# Altium integrated library TI_Logic_Little_Logic.IntLib: 1164 symbols (part 5 of 35)
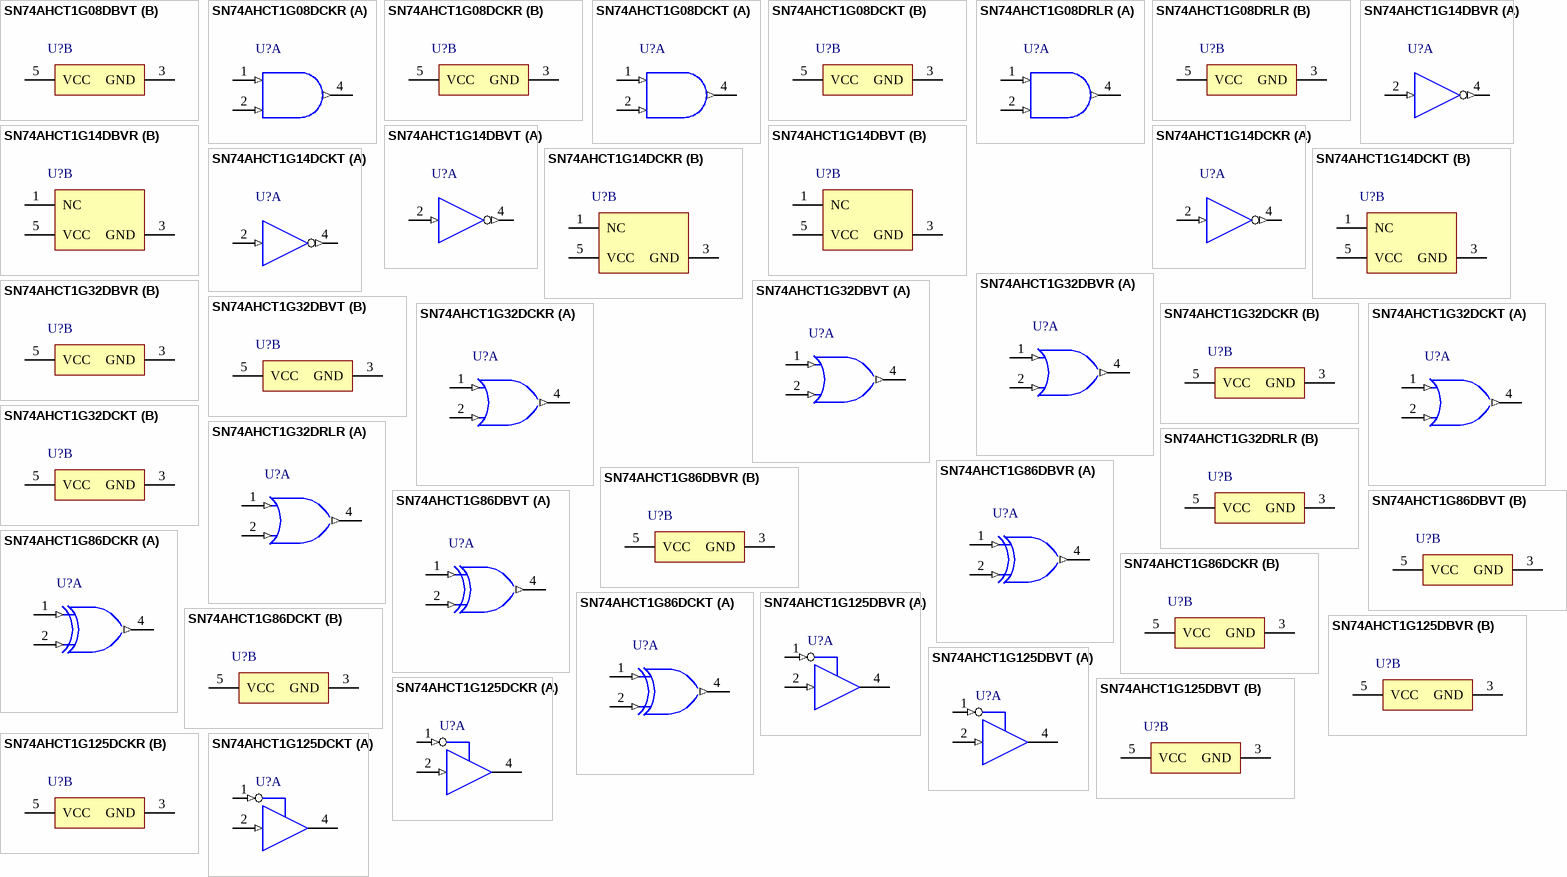
[diagram p64: symbols SN74AHCT1G08DBVT to SN74AHCT1G125DCKT]

## SN74AHCT1G32DCKR
designator U?
Single 2-Input Positive-OR Gate, DCK0005A, LARGE T&R; Generic Part Number: SN74AHCT1G32; Manufacturer: Texas Instruments; PartNumber: SN74AHCT1G32DCKR; VCC(Min)(V): 2; VCC(Max)(V): 5.5; Output Type: CMOS; ICC @ Nom Voltage(Max)(mA): 0.01; Bits(#): 1; F @ Nom Voltage(Max)(Mhz): 75; Rating: Catalog; Technology Family: AHCT; Voltage(Nom)(V): 5; Schmitt Trigger: No; Output Drive (IOL/IOH)(Max)(mA): 8/-8; tpd @ Nom Voltage(Max)(ns): 8; Logic: True; Gate Type: OR; Sub-Family: OR Gate; DatasheetVersion: SCLS320O; PackageReference: DCK0005A; Supplier 1: Mouser; Supplier Part Number 1: 595-SN74AHCT1G32DCKR; Supplier 2: Digi-Key; Supplier Part Number 2: 296-4713-2-ND; Supplier 3: Digi-Key; Supplier Part Number 3: 296-4713-1-ND; Supplier 4: Digi-Key; Supplier Part Number 4: 296-4713-6-ND; Input Type: CMOS; Operating Temperature Range(C): -40 to 125; 3-State Output: No; ComponentLink1Description: Manufacturer URL; ComponentLink1URL: http://www.ti.com/; ComponentLink2Description: Datasheet; ComponentLink2URL: http://www.ti.com/lit/ds/symlink/sn74ahct1g32.pdf
footprint DCK0005A_N (SOT23, 5-Leads, Body 2.15x1.4mm, Pitch 0.65mm, IPC Medium Density)
footprint DCK0005A_M (SOT23, 5-Leads, Body 2.15x1.4mm, Pitch 0.65mm, IPC Low Density)
footprint DCK0005A_L (SOT23, 5-Leads, Body 2.15x1.4mm, Pitch 0.65mm, IPC High Density)
part A pins: 1 A (in) "Input A", 2 B (in) "Input B", 4 Y (out) "Output Y"
part B pins: 3 GND (power) "Ground Pin", 5 VCC (power) "Power Pin"

## SN74AHCT1G32DCKT
designator U?
Single 2-Input Positive-OR Gate, DCK0005A, SMALL T&R; Generic Part Number: SN74AHCT1G32; Manufacturer: Texas Instruments; PartNumber: SN74AHCT1G32DCKT; VCC(Min)(V): 2; VCC(Max)(V): 5.5; Output Type: CMOS; ICC @ Nom Voltage(Max)(mA): 0.01; Bits(#): 1; F @ Nom Voltage(Max)(Mhz): 75; Rating: Catalog; Technology Family: AHCT; Voltage(Nom)(V): 5; Schmitt Trigger: No; Output Drive (IOL/IOH)(Max)(mA): 8/-8; tpd @ Nom Voltage(Max)(ns): 8; Logic: True; Gate Type: OR; Sub-Family: OR Gate; DatasheetVersion: SCLS320O; PackageReference: DCK0005A; Supplier 1: Mouser; Supplier Part Number 1: 595-SN74AHCT1G32DCKT; Supplier 2: Digi-Key; Supplier Part Number 2: 296-32250-2-ND; Supplier 3: Digi-Key; Supplier Part Number 3: 296-32250-1-ND; Supplier 4: Digi-Key; Supplier Part Number 4: 296-32250-6-ND; Input Type: CMOS; Operating Temperature Range(C): -40 to 125; 3-State Output: No; ComponentLink1Description: Manufacturer URL; ComponentLink1URL: http://www.ti.com/; ComponentLink2Description: Datasheet; ComponentLink2URL: http://www.ti.com/lit/ds/symlink/sn74ahct1g32.pdf
footprint DCK0005A_N (SOT23, 5-Leads, Body 2.15x1.4mm, Pitch 0.65mm, IPC Medium Density)
footprint DCK0005A_M (SOT23, 5-Leads, Body 2.15x1.4mm, Pitch 0.65mm, IPC Low Density)
footprint DCK0005A_L (SOT23, 5-Leads, Body 2.15x1.4mm, Pitch 0.65mm, IPC High Density)
part A pins: 1 A (in) "Input A", 2 B (in) "Input B", 4 Y (out) "Output Y"
part B pins: 3 GND (power) "Ground Pin", 5 VCC (power) "Power Pin"

## SN74AHCT1G32DRLR
designator U?
Single 2-Input Positive-OR Gate, DRL0005A, LARGE T&R; Generic Part Number: SN74AHCT1G32; Manufacturer: Texas Instruments; PartNumber: SN74AHCT1G32DRLR; VCC(Min)(V): 2; VCC(Max)(V): 5.5; Output Type: CMOS; ICC @ Nom Voltage(Max)(mA): 0.01; Bits(#): 1; F @ Nom Voltage(Max)(Mhz): 75; Rating: Catalog; Technology Family: AHCT; Voltage(Nom)(V): 5; Schmitt Trigger: No; Output Drive (IOL/IOH)(Max)(mA): 8/-8; tpd @ Nom Voltage(Max)(ns): 8; Logic: True; Gate Type: OR; Sub-Family: OR Gate; DatasheetVersion: SCLS320O; PackageReference: DRL0005A; Supplier 1: Mouser; Supplier Part Number 1: 595-SN74AHCT1G32DRLR; Supplier 2: Digi-Key; Supplier Part Number 2: 296-32251-2-ND; Supplier 3: Digi-Key; Supplier Part Number 3: 296-32251-1-ND; Supplier 4: Digi-Key; Supplier Part Number 4: 296-32251-6-ND; Input Type: CMOS; Operating Temperature Range(C): -40 to 125; 3-State Output: No; ComponentLink1Description: Manufacturer URL; ComponentLink1URL: http://www.ti.com/; ComponentLink2Description: Datasheet; ComponentLink2URL: http://www.ti.com/lit/ds/symlink/sn74ahct1g32.pdf
footprint DRL0005A_N (SOT23, 5-Leads, Body 1.7x1.3mm, Pitch 0.5mm, IPC Medium Density)
footprint DRL0005A_M (SOT23, 5-Leads, Body 1.7x1.3mm, Pitch 0.5mm, IPC Low Density)
footprint DRL0005A_L (SOT23, 5-Leads, Body 1.7x1.3mm, Pitch 0.5mm, IPC High Density)
part A pins: 1 A (in) "Input A", 2 B (in) "Input B", 4 Y (out) "Output Y"
part B pins: 3 GND (power) "Ground Pin", 5 VCC (power) "Power Pin"

## SN74AHCT1G86DBVR
designator U?
Single 2-Input Exclusive-OR Gate, DBV0005A, LARGE T&R; Generic Part Number: SN74AHCT1G86; Manufacturer: Texas Instruments; PartNumber: SN74AHCT1G86DBVR; VCC(Min)(V): 2; VCC(Max)(V): 5.5; Output Type: CMOS; ICC @ Nom Voltage(Max)(mA): 0.01; Bits(#): 1; F @ Nom Voltage(Max)(Mhz): 75; Rating: Catalog; Technology Family: AHCT; Voltage(Nom)(V): 5; Schmitt Trigger: No; Output Drive (IOL/IOH)(Max)(mA): 8/-8; tpd @ Nom Voltage(Max)(ns): 8; Logic: True; Gate Type: XOR; Sub-Family: XOR Gate; DatasheetVersion: SCLS324M; PackageReference: DBV0005A; Supplier 1: Mouser; Supplier Part Number 1: 595-SN74AHCT1G86DBVR; Supplier 2: Digi-Key; Supplier Part Number 2: 296-4714-2-ND; Supplier 3: Digi-Key; Supplier Part Number 3: 296-4714-1-ND; Supplier 4: Digi-Key; Supplier Part Number 4: 296-4714-6-ND; Input Type: CMOS; Operating Temperature Range(C): -40 to 125; 3-State Output: No; ComponentLink1Description: Manufacturer URL; ComponentLink1URL: http://www.ti.com/; ComponentLink2Description: Datasheet; ComponentLink2URL: http://www.ti.com/lit/ds/symlink/sn74ahct1g86.pdf
footprint DBV0005A_N (SOT23, 5-Leads, Body 3.05x1.75mm, Pitch 0.95mm, IPC Medium Density)
footprint DBV0005A_M (SOT23, 5-Leads, Body 3.05x1.75mm, Pitch 0.95mm, IPC Low Density)
footprint DBV0005A_L (SOT23, 5-Leads, Body 3.05x1.75mm, Pitch 0.95mm, IPC High Density)
part A pins: 1 A (in) "Input A", 2 B (in) "Input B", 4 Y (out) "Output Y"
part B pins: 3 GND (power) "Ground Pin", 5 VCC (power) "Power Pin"

## SN74AHCT1G86DBVT
designator U?
Single 2-Input Exclusive-OR Gate, DBV0005A, SMALL T&R; Generic Part Number: SN74AHCT1G86; Manufacturer: Texas Instruments; PartNumber: SN74AHCT1G86DBVT; VCC(Min)(V): 2; VCC(Max)(V): 5.5; Output Type: CMOS; ICC @ Nom Voltage(Max)(mA): 0.01; Bits(#): 1; F @ Nom Voltage(Max)(Mhz): 75; Rating: Catalog; Technology Family: AHCT; Voltage(Nom)(V): 5; Schmitt Trigger: No; Output Drive (IOL/IOH)(Max)(mA): 8/-8; tpd @ Nom Voltage(Max)(ns): 8; Logic: True; Gate Type: XOR; Sub-Family: XOR Gate; DatasheetVersion: SCLS324M; PackageReference: DBV0005A; Supplier 1: Mouser; Supplier Part Number 1: 595-SN74AHCT1G86DBVT; Supplier 2: Digi-Key; Supplier Part Number 2: 296-32252-2-ND; Supplier 3: Digi-Key; Supplier Part Number 3: 296-32252-1-ND; Supplier 4: Digi-Key; Supplier Part Number 4: 296-32252-6-ND; Input Type: CMOS; Operating Temperature Range(C): -40 to 125; 3-State Output: No; ComponentLink1Description: Manufacturer URL; ComponentLink1URL: http://www.ti.com/; ComponentLink2Description: Datasheet; ComponentLink2URL: http://www.ti.com/lit/ds/symlink/sn74ahct1g86.pdf
footprint DBV0005A_N (SOT23, 5-Leads, Body 3.05x1.75mm, Pitch 0.95mm, IPC Medium Density)
footprint DBV0005A_M (SOT23, 5-Leads, Body 3.05x1.75mm, Pitch 0.95mm, IPC Low Density)
footprint DBV0005A_L (SOT23, 5-Leads, Body 3.05x1.75mm, Pitch 0.95mm, IPC High Density)
part A pins: 1 A (in) "Input A", 2 B (in) "Input B", 4 Y (out) "Output Y"
part B pins: 3 GND (power) "Ground Pin", 5 VCC (power) "Power Pin"

## SN74AHCT1G86DCKR
designator U?
Single 2-Input Exclusive-OR Gate, DCK0005A, LARGE T&R; Generic Part Number: SN74AHCT1G86; Manufacturer: Texas Instruments; PartNumber: SN74AHCT1G86DCKR; VCC(Min)(V): 2; VCC(Max)(V): 5.5; Output Type: CMOS; ICC @ Nom Voltage(Max)(mA): 0.01; Bits(#): 1; F @ Nom Voltage(Max)(Mhz): 75; Rating: Catalog; Technology Family: AHCT; Voltage(Nom)(V): 5; Schmitt Trigger: No; Output Drive (IOL/IOH)(Max)(mA): 8/-8; tpd @ Nom Voltage(Max)(ns): 8; Logic: True; Gate Type: XOR; Sub-Family: XOR Gate; DatasheetVersion: SCLS324M; PackageReference: DCK0005A; Supplier 1: Mouser; Supplier Part Number 1: 595-SN74AHCT1G86DCKR; Supplier 2: Digi-Key; Supplier Part Number 2: 296-4715-2-ND; Supplier 3: Digi-Key; Supplier Part Number 3: 296-4715-1-ND; Supplier 4: Digi-Key; Supplier Part Number 4: 296-4715-6-ND; Input Type: CMOS; Operating Temperature Range(C): -40 to 125; 3-State Output: No; ComponentLink1Description: Manufacturer URL; ComponentLink1URL: http://www.ti.com/; ComponentLink2Description: Datasheet; ComponentLink2URL: http://www.ti.com/lit/ds/symlink/sn74ahct1g86.pdf
footprint DCK0005A_N (SOT23, 5-Leads, Body 2.15x1.4mm, Pitch 0.65mm, IPC Medium Density)
footprint DCK0005A_M (SOT23, 5-Leads, Body 2.15x1.4mm, Pitch 0.65mm, IPC Low Density)
footprint DCK0005A_L (SOT23, 5-Leads, Body 2.15x1.4mm, Pitch 0.65mm, IPC High Density)
part A pins: 1 A (in) "Input A", 2 B (in) "Input B", 4 Y (out) "Output Y"
part B pins: 3 GND (power) "Ground Pin", 5 VCC (power) "Power Pin"

## SN74AHCT1G86DCKT
designator U?
Single 2-Input Exclusive-OR Gate, DCK0005A, SMALL T&R; Generic Part Number: SN74AHCT1G86; Manufacturer: Texas Instruments; PartNumber: SN74AHCT1G86DCKT; VCC(Min)(V): 2; VCC(Max)(V): 5.5; Output Type: CMOS; ICC @ Nom Voltage(Max)(mA): 0.01; Bits(#): 1; F @ Nom Voltage(Max)(Mhz): 75; Rating: Catalog; Technology Family: AHCT; Voltage(Nom)(V): 5; Schmitt Trigger: No; Output Drive (IOL/IOH)(Max)(mA): 8/-8; tpd @ Nom Voltage(Max)(ns): 8; Logic: True; Gate Type: XOR; Sub-Family: XOR Gate; DatasheetVersion: SCLS324M; PackageReference: DCK0005A; Supplier 1: Mouser; Supplier Part Number 1: 595-SN74AHCT1G86DCKT; Input Type: CMOS; Operating Temperature Range(C): -40 to 125; 3-State Output: No; ComponentLink1Description: Manufacturer URL; ComponentLink1URL: http://www.ti.com/; ComponentLink2Description: Datasheet; ComponentLink2URL: http://www.ti.com/lit/ds/symlink/sn74ahct1g86.pdf
footprint DCK0005A_N (SOT23, 5-Leads, Body 2.15x1.4mm, Pitch 0.65mm, IPC Medium Density)
footprint DCK0005A_M (SOT23, 5-Leads, Body 2.15x1.4mm, Pitch 0.65mm, IPC Low Density)
footprint DCK0005A_L (SOT23, 5-Leads, Body 2.15x1.4mm, Pitch 0.65mm, IPC High Density)
part A pins: 1 A (in) "Input A", 2 B (in) "Input B", 4 Y (out) "Output Y"
part B pins: 3 GND (power) "Ground Pin", 5 VCC (power) "Power Pin"

## SN74AHCT1G125DBVR
designator U?
Single Bus Buffer Gate With 3-State Output, DBV0005A, LARGE T&R; Generic Part Number: SN74AHCT1G125; Manufacturer: Texas Instruments; PartNumber: SN74AHCT1G125DBVR; VCC(Min)(V): 2; VCC(Max)(V): 5.5; Output Type: CMOS; ICC @ Nom Voltage(Max)(mA): 0.01; Bits(#): 1; F @ Nom Voltage(Max)(Mhz): 75; Rating: Catalog; Technology Family: AHCT; Voltage(Nom)(V): 5; Schmitt Trigger: No; Output Drive (IOL/IOH)(Max)(mA): 8/-8; tpd @ Nom Voltage(Max)(ns): 6; Logic: True; Sub-Family: Non-Inverting Buffer/Driver; 3-State Output: Yes; DatasheetVersion: SCLS378M; PackageReference: DBV0005A; Supplier 1: Mouser; Supplier Part Number 1: 595-SNAHCT1G125DBVR; Supplier 2: Digi-Key; Supplier Part Number 2: 296-4708-2-ND; Supplier 3: Digi-Key; Supplier Part Number 3: 296-4708-1-ND; Supplier 4: Digi-Key; Supplier Part Number 4: 296-4708-6-ND; Input Type: CMOS; Operating Temperature Range(C): -40 to 125; ComponentLink1Description: Manufacturer URL; ComponentLink1URL: http://www.ti.com/; ComponentLink2Description: Datasheet; ComponentLink2URL: http://www.ti.com/lit/ds/symlink/sn74ahct1g125.pdf
footprint DBV0005A_N (SOT23, 5-Leads, Body 3.05x1.75mm, Pitch 0.95mm, IPC Medium Density)
footprint DBV0005A_M (SOT23, 5-Leads, Body 3.05x1.75mm, Pitch 0.95mm, IPC Low Density)
footprint DBV0005A_L (SOT23, 5-Leads, Body 3.05x1.75mm, Pitch 0.95mm, IPC High Density)
part A pins: 1 ~{OE} (in), 2 A (in), 4 Y (hiz)
part B pins: 3 GND (power), 5 VCC (power)

## SN74AHCT1G125DBVT
designator U?
Single Bus Buffer Gate With 3-State Output, DBV0005A, SMALL T&R; Generic Part Number: SN74AHCT1G125; Manufacturer: Texas Instruments; PartNumber: SN74AHCT1G125DBVT; VCC(Min)(V): 2; VCC(Max)(V): 5.5; Output Type: CMOS; ICC @ Nom Voltage(Max)(mA): 0.01; Bits(#): 1; F @ Nom Voltage(Max)(Mhz): 75; Rating: Catalog; Technology Family: AHCT; Voltage(Nom)(V): 5; Schmitt Trigger: No; Output Drive (IOL/IOH)(Max)(mA): 8/-8; tpd @ Nom Voltage(Max)(ns): 6; Logic: True; Sub-Family: Non-Inverting Buffer/Driver; 3-State Output: Yes; DatasheetVersion: SCLS378M; PackageReference: DBV0005A; Supplier 1: Mouser; Supplier Part Number 1: 595-SN74AHCT1G125DBV; Supplier 2: Digi-Key; Supplier Part Number 2: 296-32243-2-ND; Supplier 3: Digi-Key; Supplier Part Number 3: 296-32243-1-ND; Supplier 4: Digi-Key; Supplier Part Number 4: 296-32243-6-ND; Input Type: CMOS; Operating Temperature Range(C): -40 to 125; ComponentLink1Description: Manufacturer URL; ComponentLink1URL: http://www.ti.com/; ComponentLink2Description: Datasheet; ComponentLink2URL: http://www.ti.com/lit/ds/symlink/sn74ahct1g125.pdf
footprint DBV0005A_N (SOT23, 5-Leads, Body 3.05x1.75mm, Pitch 0.95mm, IPC Medium Density)
footprint DBV0005A_M (SOT23, 5-Leads, Body 3.05x1.75mm, Pitch 0.95mm, IPC Low Density)
footprint DBV0005A_L (SOT23, 5-Leads, Body 3.05x1.75mm, Pitch 0.95mm, IPC High Density)
part A pins: 1 ~{OE} (in), 2 A (in), 4 Y (hiz)
part B pins: 3 GND (power), 5 VCC (power)

## SN74AHCT1G125DCKR
designator U?
Single Bus Buffer Gate With 3-State Output, DCK0005A, LARGE T&R; Generic Part Number: SN74AHCT1G125; Manufacturer: Texas Instruments; PartNumber: SN74AHCT1G125DCKR; VCC(Min)(V): 2; VCC(Max)(V): 5.5; Output Type: CMOS; ICC @ Nom Voltage(Max)(mA): 0.01; Bits(#): 1; F @ Nom Voltage(Max)(Mhz): 75; Rating: Catalog; Technology Family: AHCT; Voltage(Nom)(V): 5; Schmitt Trigger: No; Output Drive (IOL/IOH)(Max)(mA): 8/-8; tpd @ Nom Voltage(Max)(ns): 6; Logic: True; Sub-Family: Non-Inverting Buffer/Driver; 3-State Output: Yes; DatasheetVersion: SCLS378M; PackageReference: DCK0005A; Supplier 1: Mouser; Supplier Part Number 1: 595-SNAHCT1G125DCKR; Supplier 2: Digi-Key; Supplier Part Number 2: 296-4709-2-ND; Supplier 3: Digi-Key; Supplier Part Number 3: 296-4709-1-ND; Supplier 4: Digi-Key; Supplier Part Number 4: 296-4709-6-ND; Input Type: CMOS; Operating Temperature Range(C): -40 to 125; ComponentLink1Description: Manufacturer URL; ComponentLink1URL: http://www.ti.com/; ComponentLink2Description: Datasheet; ComponentLink2URL: http://www.ti.com/lit/ds/symlink/sn74ahct1g125.pdf
footprint DCK0005A_N (SOT23, 5-Leads, Body 2.15x1.4mm, Pitch 0.65mm, IPC Medium Density)
footprint DCK0005A_M (SOT23, 5-Leads, Body 2.15x1.4mm, Pitch 0.65mm, IPC Low Density)
footprint DCK0005A_L (SOT23, 5-Leads, Body 2.15x1.4mm, Pitch 0.65mm, IPC High Density)
part A pins: 1 ~{OE} (in), 2 A (in), 4 Y (hiz)
part B pins: 3 GND (power), 5 VCC (power)

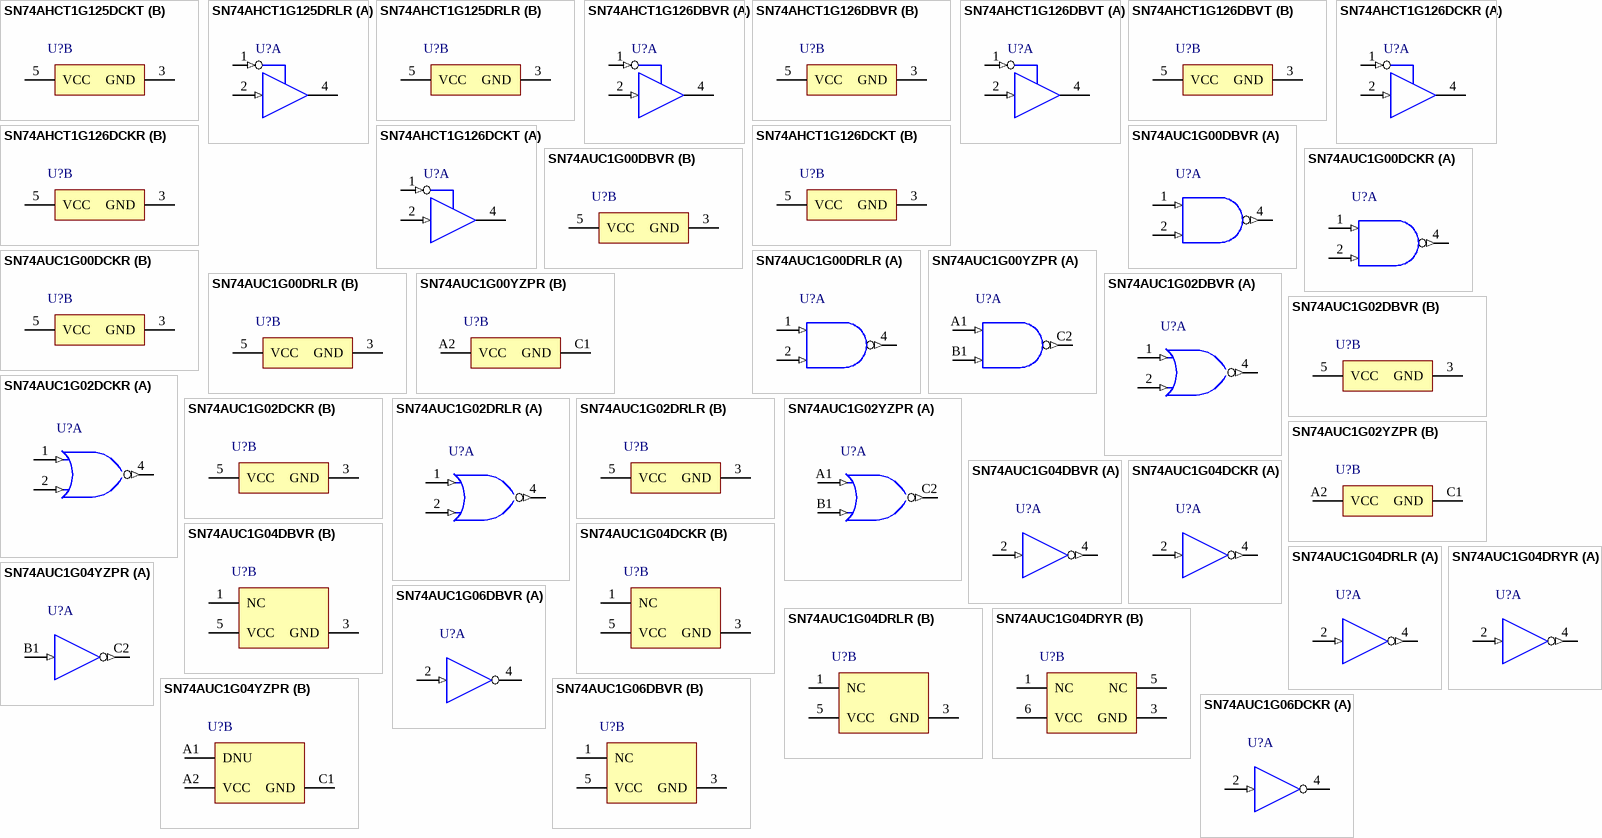
[diagram p7: symbols SN74AHCT1G125DCKT to SN74AUC1G06DCKR]

## SN74AHCT1G125DCKT
designator U?
Single Bus Buffer Gate With 3-State Output, DCK0005A, SMALL T&R; Generic Part Number: SN74AHCT1G125; Manufacturer: Texas Instruments; PartNumber: SN74AHCT1G125DCKT; VCC(Min)(V): 2; VCC(Max)(V): 5.5; Output Type: CMOS; ICC @ Nom Voltage(Max)(mA): 0.01; Bits(#): 1; F @ Nom Voltage(Max)(Mhz): 75; Rating: Catalog; Technology Family: AHCT; Voltage(Nom)(V): 5; Schmitt Trigger: No; Output Drive (IOL/IOH)(Max)(mA): 8/-8; tpd @ Nom Voltage(Max)(ns): 6; Logic: True; Sub-Family: Non-Inverting Buffer/Driver; 3-State Output: Yes; DatasheetVersion: SCLS378M; PackageReference: DCK0005A; Supplier 1: Mouser; Supplier Part Number 1: 595-SN74AHCT1G125DCK; Supplier 2: Digi-Key; Supplier Part Number 2: 296-32244-2-ND; Supplier 3: Digi-Key; Supplier Part Number 3: 296-32244-1-ND; Supplier 4: Digi-Key; Supplier Part Number 4: 296-32244-6-ND; Input Type: CMOS; Operating Temperature Range(C): -40 to 125; ComponentLink1Description: Manufacturer URL; ComponentLink1URL: http://www.ti.com/; ComponentLink2Description: Datasheet; ComponentLink2URL: http://www.ti.com/lit/ds/symlink/sn74ahct1g125.pdf
footprint DCK0005A_N (SOT23, 5-Leads, Body 2.15x1.4mm, Pitch 0.65mm, IPC Medium Density)
footprint DCK0005A_M (SOT23, 5-Leads, Body 2.15x1.4mm, Pitch 0.65mm, IPC Low Density)
footprint DCK0005A_L (SOT23, 5-Leads, Body 2.15x1.4mm, Pitch 0.65mm, IPC High Density)
part A pins: 1 ~{OE} (in), 2 A (in), 4 Y (hiz)
part B pins: 3 GND (power), 5 VCC (power)

## SN74AHCT1G125DRLR
designator U?
Single Bus Buffer Gate With 3-State Output, DRL0005A, LARGE T&R; Generic Part Number: SN74AHCT1G125; Manufacturer: Texas Instruments; PartNumber: SN74AHCT1G125DRLR; VCC(Min)(V): 2; VCC(Max)(V): 5.5; Output Type: CMOS; ICC @ Nom Voltage(Max)(mA): 0.01; Bits(#): 1; F @ Nom Voltage(Max)(Mhz): 75; Rating: Catalog; Technology Family: AHCT; Voltage(Nom)(V): 5; Schmitt Trigger: No; Output Drive (IOL/IOH)(Max)(mA): 8/-8; tpd @ Nom Voltage(Max)(ns): 6; Logic: True; Sub-Family: Non-Inverting Buffer/Driver; 3-State Output: Yes; DatasheetVersion: SCLS378M; PackageReference: DRL0005A; Supplier 1: Mouser; Supplier Part Number 1: 595-SN74AHCT1G125DRL; Supplier 2: Digi-Key; Supplier Part Number 2: 296-19379-2-ND; Supplier 3: Digi-Key; Supplier Part Number 3: 296-19379-1-ND; Supplier 4: Digi-Key; Supplier Part Number 4: 296-19379-6-ND; Input Type: CMOS; Operating Temperature Range(C): -40 to 125; ComponentLink1Description: Manufacturer URL; ComponentLink1URL: http://www.ti.com/; ComponentLink2Description: Datasheet; ComponentLink2URL: http://www.ti.com/lit/ds/symlink/sn74ahct1g125.pdf
footprint DRL0005A_N (SOT23, 5-Leads, Body 1.7x1.3mm, Pitch 0.5mm, IPC Medium Density)
footprint DRL0005A_M (SOT23, 5-Leads, Body 1.7x1.3mm, Pitch 0.5mm, IPC Low Density)
footprint DRL0005A_L (SOT23, 5-Leads, Body 1.7x1.3mm, Pitch 0.5mm, IPC High Density)
part A pins: 1 ~{OE} (in), 2 A (in), 4 Y (hiz)
part B pins: 3 GND (power), 5 VCC (power)

## SN74AHCT1G126DBVR
designator U?
Single Bus Buffer Gate With 3-State Output, DBV0005A, LARGE T&R; Generic Part Number: SN74AHCT1G126; Manufacturer: Texas Instruments; PartNumber: SN74AHCT1G126DBVR; VCC(Min)(V): 2; VCC(Max)(V): 5.5; Output Type: CMOS; ICC @ Nom Voltage(Max)(mA): 0.01; Bits(#): 1; F @ Nom Voltage(Max)(Mhz): 75; Rating: Catalog; Technology Family: AHCT; Voltage(Nom)(V): 5; Schmitt Trigger: No; Output Drive (IOL/IOH)(Max)(mA): 8/-8; tpd @ Nom Voltage(Max)(ns): 6; Logic: True; Sub-Family: Non-Inverting Buffer/Driver; 3-State Output: Yes; DatasheetVersion: SCLS380J; PackageReference: DBV0005A; Supplier 1: Mouser; Supplier Part Number 1: 595-SNAHCT1G126DBVR; Supplier 2: Digi-Key; Supplier Part Number 2: 296-4710-2-ND; Supplier 3: Digi-Key; Supplier Part Number 3: 296-4710-1-ND; Supplier 4: Digi-Key; Supplier Part Number 4: 296-4710-6-ND; Input Type: CMOS; Operating Temperature Range(C): -40 to 125; ComponentLink1Description: Manufacturer URL; ComponentLink1URL: http://www.ti.com/; ComponentLink2Description: Datasheet; ComponentLink2URL: http://www.ti.com/lit/ds/symlink/sn74ahct1g126.pdf
footprint DBV0005A_N (SOT23, 5-Leads, Body 3.05x1.75mm, Pitch 0.95mm, IPC Medium Density)
footprint DBV0005A_M (SOT23, 5-Leads, Body 3.05x1.75mm, Pitch 0.95mm, IPC Low Density)
footprint DBV0005A_L (SOT23, 5-Leads, Body 3.05x1.75mm, Pitch 0.95mm, IPC High Density)
part A pins: 1 OE (in), 2 A (in), 4 Y (hiz)
part B pins: 3 GND (power), 5 VCC (power)

## SN74AHCT1G126DBVT
designator U?
Single Bus Buffer Gate With 3-State Output, DBV0005A, SMALL T&R; Generic Part Number: SN74AHCT1G126; Manufacturer: Texas Instruments; PartNumber: SN74AHCT1G126DBVT; VCC(Min)(V): 2; VCC(Max)(V): 5.5; Output Type: CMOS; ICC @ Nom Voltage(Max)(mA): 0.01; Bits(#): 1; F @ Nom Voltage(Max)(Mhz): 75; Rating: Catalog; Technology Family: AHCT; Voltage(Nom)(V): 5; Schmitt Trigger: No; Output Drive (IOL/IOH)(Max)(mA): 8/-8; tpd @ Nom Voltage(Max)(ns): 6; Logic: True; Sub-Family: Non-Inverting Buffer/Driver; 3-State Output: Yes; DatasheetVersion: SCLS380J; PackageReference: DBV0005A; Supplier 1: Mouser; Supplier Part Number 1: 595-SN74AHCT1G126DBV; Supplier 2: Digi-Key; Supplier Part Number 2: 296-32245-2-ND; Supplier 3: Digi-Key; Supplier Part Number 3: 296-32245-1-ND; Supplier 4: Digi-Key; Supplier Part Number 4: 296-32245-6-ND; Input Type: CMOS; Operating Temperature Range(C): -40 to 125; ComponentLink1Description: Manufacturer URL; ComponentLink1URL: http://www.ti.com/; ComponentLink2Description: Datasheet; ComponentLink2URL: http://www.ti.com/lit/ds/symlink/sn74ahct1g126.pdf
footprint DBV0005A_N (SOT23, 5-Leads, Body 3.05x1.75mm, Pitch 0.95mm, IPC Medium Density)
footprint DBV0005A_M (SOT23, 5-Leads, Body 3.05x1.75mm, Pitch 0.95mm, IPC Low Density)
footprint DBV0005A_L (SOT23, 5-Leads, Body 3.05x1.75mm, Pitch 0.95mm, IPC High Density)
part A pins: 1 OE (in), 2 A (in), 4 Y (hiz)
part B pins: 3 GND (power), 5 VCC (power)

## SN74AHCT1G126DCKR
designator U?
Single Bus Buffer Gate With 3-State Output, DCK0005A, LARGE T&R; Generic Part Number: SN74AHCT1G126; Manufacturer: Texas Instruments; PartNumber: SN74AHCT1G126DCKR; VCC(Min)(V): 2; VCC(Max)(V): 5.5; Output Type: CMOS; ICC @ Nom Voltage(Max)(mA): 0.01; Bits(#): 1; F @ Nom Voltage(Max)(Mhz): 75; Rating: Catalog; Technology Family: AHCT; Voltage(Nom)(V): 5; Schmitt Trigger: No; Output Drive (IOL/IOH)(Max)(mA): 8/-8; tpd @ Nom Voltage(Max)(ns): 6; Logic: True; Sub-Family: Non-Inverting Buffer/Driver; 3-State Output: Yes; DatasheetVersion: SCLS380J; PackageReference: DCK0005A; Supplier 1: Mouser; Supplier Part Number 1: 595-SNAHCT1G126DCKR; Supplier 2: Digi-Key; Supplier Part Number 2: 296-4711-2-ND; Supplier 3: Digi-Key; Supplier Part Number 3: 296-4711-1-ND; Supplier 4: Digi-Key; Supplier Part Number 4: 296-4711-6-ND; Input Type: CMOS; Operating Temperature Range(C): -40 to 125; ComponentLink1Description: Manufacturer URL; ComponentLink1URL: http://www.ti.com/; ComponentLink2Description: Datasheet; ComponentLink2URL: http://www.ti.com/lit/ds/symlink/sn74ahct1g126.pdf
footprint DCK0005A_N (SOT23, 5-Leads, Body 2.15x1.4mm, Pitch 0.65mm, IPC Medium Density)
footprint DCK0005A_M (SOT23, 5-Leads, Body 2.15x1.4mm, Pitch 0.65mm, IPC Low Density)
footprint DCK0005A_L (SOT23, 5-Leads, Body 2.15x1.4mm, Pitch 0.65mm, IPC High Density)
part A pins: 1 OE (in), 2 A (in), 4 Y (hiz)
part B pins: 3 GND (power), 5 VCC (power)

## SN74AHCT1G126DCKT
designator U?
Single Bus Buffer Gate With 3-State Output, DCK0005A, SMALL T&R; Generic Part Number: SN74AHCT1G126; Manufacturer: Texas Instruments; PartNumber: SN74AHCT1G126DCKT; VCC(Min)(V): 2; VCC(Max)(V): 5.5; Output Type: CMOS; ICC @ Nom Voltage(Max)(mA): 0.01; Bits(#): 1; F @ Nom Voltage(Max)(Mhz): 75; Rating: Catalog; Technology Family: AHCT; Voltage(Nom)(V): 5; Schmitt Trigger: No; Output Drive (IOL/IOH)(Max)(mA): 8/-8; tpd @ Nom Voltage(Max)(ns): 6; Logic: True; Sub-Family: Non-Inverting Buffer/Driver; 3-State Output: Yes; DatasheetVersion: SCLS380J; PackageReference: DCK0005A; Supplier 1: Mouser; Supplier Part Number 1: 595-SN74AHCT1G126DCK; Supplier 2: Digi-Key; Supplier Part Number 2: 296-32246-2-ND; Supplier 3: Digi-Key; Supplier Part Number 3: 296-32246-1-ND; Supplier 4: Digi-Key; Supplier Part Number 4: 296-32246-6-ND; Input Type: CMOS; Operating Temperature Range(C): -40 to 125; ComponentLink1Description: Manufacturer URL; ComponentLink1URL: http://www.ti.com/; ComponentLink2Description: Datasheet; ComponentLink2URL: http://www.ti.com/lit/ds/symlink/sn74ahct1g126.pdf
footprint DCK0005A_N (SOT23, 5-Leads, Body 2.15x1.4mm, Pitch 0.65mm, IPC Medium Density)
footprint DCK0005A_M (SOT23, 5-Leads, Body 2.15x1.4mm, Pitch 0.65mm, IPC Low Density)
footprint DCK0005A_L (SOT23, 5-Leads, Body 2.15x1.4mm, Pitch 0.65mm, IPC High Density)
part A pins: 1 OE (in), 2 A (in), 4 Y (hiz)
part B pins: 3 GND (power), 5 VCC (power)

## SN74AUC1G00DBVR
designator U?
Single 2-Input Positive-NAND Gate, DBV0005A, LARGE T&R; Generic Part Number: SN74AUC1G00; Manufacturer: Texas Instruments; PartNumber: SN74AUC1G00DBVR; VCC(Min)(V): 0.8; VCC(Max)(V): 2.7; Output Type: CMOS; ICC @ Nom Voltage(Max)(mA): 0.01; Bits(#): 1; F @ Nom Voltage(Max)(Mhz): 250; Rating: Catalog; Technology Family: AUC; Voltage(Nom)(V): 0.8,1.2,1.5,1.8,2.5; Schmitt Trigger: No; Output Drive (IOL/IOH)(Max)(mA): 9/-9; tpd @ Nom Voltage(Max)(ns): 4.7,3.2,2.2,1.6,1.4; Logic: True; Gate Type: NAND; DatasheetVersion: SCES368O; PackageReference: DBV0005A; Supplier 1: Mouser; Supplier Part Number 1: 595-SN74AUC1G00DBVR; Supplier 2: Digi-Key; Supplier Part Number 2: 296-13164-2-ND; Supplier 3: Digi-Key; Supplier Part Number 3: 296-13164-1-ND; Supplier 4: Digi-Key; Supplier Part Number 4: 296-13164-6-ND; Input Type: CMOS; Operating Temperature Range(C): -40 to 85; Sub-Family: NAND Gate; 3-State Output: No; ComponentLink1Description: Manufacturer URL; ComponentLink1URL: http://www.ti.com/; ComponentLink2Description: Datasheet; ComponentLink2URL: http://www.ti.com/lit/ds/symlink/sn74auc1g00.pdf
footprint DBV0005A_N (SOT23, 5-Leads, Body 3.05x1.75mm, Pitch 0.95mm, IPC Medium Density)
footprint DBV0005A_M (SOT23, 5-Leads, Body 3.05x1.75mm, Pitch 0.95mm, IPC Low Density)
footprint DBV0005A_L (SOT23, 5-Leads, Body 3.05x1.75mm, Pitch 0.95mm, IPC High Density)
part A pins: 1 A (in) "Input A", 2 B (in) "Input B", 4 Y (out) "Output Y"
part B pins: 3 GND (power) "Ground Pin", 5 VCC (power) "Power Pin"

## SN74AUC1G00DCKR
designator U?
Single 2-Input Positive-NAND Gate, DCK0005A, LARGE T&R; Generic Part Number: SN74AUC1G00; Manufacturer: Texas Instruments; PartNumber: SN74AUC1G00DCKR; VCC(Min)(V): 0.8; VCC(Max)(V): 2.7; Output Type: CMOS; ICC @ Nom Voltage(Max)(mA): 0.01; Bits(#): 1; F @ Nom Voltage(Max)(Mhz): 250; Rating: Catalog; Technology Family: AUC; Voltage(Nom)(V): 0.8,1.2,1.5,1.8,2.5; Schmitt Trigger: No; Output Drive (IOL/IOH)(Max)(mA): 9/-9; tpd @ Nom Voltage(Max)(ns): 4.7,3.2,2.2,1.6,1.4; Logic: True; Gate Type: NAND; DatasheetVersion: SCES368O; PackageReference: DCK0005A; Supplier 1: Mouser; Supplier Part Number 1: 595-SN74AUC1G00DCKR; Supplier 2: Digi-Key; Supplier Part Number 2: 296-13165-2-ND; Supplier 3: Digi-Key; Supplier Part Number 3: 296-13165-1-ND; Supplier 4: Digi-Key; Supplier Part Number 4: 296-13165-6-ND; Input Type: CMOS; Operating Temperature Range(C): -40 to 85; Sub-Family: NAND Gate; 3-State Output: No; ComponentLink1Description: Manufacturer URL; ComponentLink1URL: http://www.ti.com/; ComponentLink2Description: Datasheet; ComponentLink2URL: http://www.ti.com/lit/ds/symlink/sn74auc1g00.pdf
footprint DCK0005A_N (SOT23, 5-Leads, Body 2.15x1.4mm, Pitch 0.65mm, IPC Medium Density)
footprint DCK0005A_M (SOT23, 5-Leads, Body 2.15x1.4mm, Pitch 0.65mm, IPC Low Density)
footprint DCK0005A_L (SOT23, 5-Leads, Body 2.15x1.4mm, Pitch 0.65mm, IPC High Density)
part A pins: 1 A (in) "Input A", 2 B (in) "Input B", 4 Y (out) "Output Y"
part B pins: 3 GND (power) "Ground Pin", 5 VCC (power) "Power Pin"

## SN74AUC1G00DRLR
designator U?
Single 2-Input Positive-NAND Gate, DRL0005A, LARGE T&R; Generic Part Number: SN74AUC1G00; Manufacturer: Texas Instruments; PartNumber: SN74AUC1G00DRLR; VCC(Min)(V): 0.8; VCC(Max)(V): 2.7; Output Type: CMOS; ICC @ Nom Voltage(Max)(mA): 0.01; Bits(#): 1; F @ Nom Voltage(Max)(Mhz): 250; Rating: Catalog; Technology Family: AUC; Voltage(Nom)(V): 0.8,1.2,1.5,1.8,2.5; Schmitt Trigger: No; Output Drive (IOL/IOH)(Max)(mA): 9/-9; tpd @ Nom Voltage(Max)(ns): 4.7,3.2,2.2,1.6,1.4; Logic: True; Gate Type: NAND; DatasheetVersion: SCES368O; PackageReference: DRL0005A; Supplier 1: Mouser; Supplier Part Number 1: 595-SN74AUC1G00DRLR; Supplier 2: Digi-Key; Supplier Part Number 2: 296-19319-2-ND; Supplier 3: Digi-Key; Supplier Part Number 3: 296-19319-1-ND; Supplier 4: Digi-Key; Supplier Part Number 4: 296-19319-6-ND; Input Type: CMOS; Operating Temperature Range(C): -40 to 85; Sub-Family: NAND Gate; 3-State Output: No; ComponentLink1Description: Manufacturer URL; ComponentLink1URL: http://www.ti.com/; ComponentLink2Description: Datasheet; ComponentLink2URL: http://www.ti.com/lit/ds/symlink/sn74auc1g00.pdf
footprint DRL0005A_N (SOT23, 5-Leads, Body 1.7x1.3mm, Pitch 0.5mm, IPC Medium Density)
footprint DRL0005A_M (SOT23, 5-Leads, Body 1.7x1.3mm, Pitch 0.5mm, IPC Low Density)
footprint DRL0005A_L (SOT23, 5-Leads, Body 1.7x1.3mm, Pitch 0.5mm, IPC High Density)
part A pins: 1 A (in) "Input A", 2 B (in) "Input B", 4 Y (out) "Output Y"
part B pins: 3 GND (power) "Ground Pin", 5 VCC (power) "Power Pin"

## SN74AUC1G00YZPR
designator U?
Single 2-Input Positive-NAND Gate, YZP0005ADAD, LARGE T&R; Generic Part Number: SN74AUC1G00; Manufacturer: Texas Instruments; PartNumber: SN74AUC1G00YZPR; VCC(Min)(V): 0.8; VCC(Max)(V): 2.7; Output Type: CMOS; ICC @ Nom Voltage(Max)(mA): 0.01; Bits(#): 1; F @ Nom Voltage(Max)(Mhz): 250; Rating: Catalog; Technology Family: AUC; Voltage(Nom)(V): 0.8,1.2,1.5,1.8,2.5; Schmitt Trigger: No; Output Drive (IOL/IOH)(Max)(mA): 9/-9; tpd @ Nom Voltage(Max)(ns): 4.7,3.2,2.2,1.6,1.4; Logic: True; Gate Type: NAND; DatasheetVersion: SCES368O; PackageReference: YZP0005ADAD; Supplier 1: Mouser; Supplier Part Number 1: 595-SN74AUC1G00YZPR; Supplier 2: Digi-Key; Supplier Part Number 2: 296-18546-2-ND; Supplier 3: Digi-Key; Supplier Part Number 3: 296-18546-1-ND; Input Type: CMOS; Operating Temperature Range(C): -40 to 85; Sub-Family: NAND Gate; 3-State Output: No; ComponentLink1Description: Manufacturer URL; ComponentLink1URL: http://www.ti.com/; ComponentLink2Description: Datasheet; ComponentLink2URL: http://www.ti.com/lit/ds/symlink/sn74auc1g00.pdf
footprint YZP0005ADAD (BGA, 5-Balls, Body 1.39x0.89mm, Pitch 0.5mm)
part A pins: A1 A (in) "Input A", B1 B (in) "Input B", C2 Y (out) "Output Y"
part B pins: A2 VCC (power) "Power Pin", C1 GND (power) "Ground"

## SN74AUC1G02DBVR
designator U?
Single 2-Input Positive-NOR Gate, DBV0005A, LARGE T&R; Generic Part Number: SN74AUC1G02; Manufacturer: Texas Instruments; PartNumber: SN74AUC1G02DBVR; VCC(Min)(V): 0.8; VCC(Max)(V): 2.7; Output Type: CMOS; ICC @ Nom Voltage(Max)(mA): 0.01; Bits(#): 1; F @ Nom Voltage(Max)(Mhz): 250; Rating: Catalog; Technology Family: AUC; Voltage(Nom)(V): 0.8,1.2,1.5,1.8,2.5; Schmitt Trigger: No; Output Drive (IOL/IOH)(Max)(mA): 9/-9; tpd @ Nom Voltage(Max)(ns): 4.6,3.2,2.2,1.9,1.7; Logic: True; Gate Type: NOR; DatasheetVersion: SCES369P; PackageReference: DBV0005A; Supplier 1: Mouser; Supplier Part Number 1: 595-SN74AUC1G02DBVR; Supplier 2: Digi-Key; Supplier Part Number 2: 296-13166-2-ND; Supplier 3: Digi-Key; Supplier Part Number 3: 296-13166-1-ND; Supplier 4: Digi-Key; Supplier Part Number 4: 296-13166-6-ND; Input Type: CMOS; Operating Temperature Range(C): -40 to 85; Sub-Family: NOR Gate; 3-State Output: No; ComponentLink1Description: Manufacturer URL; ComponentLink1URL: http://www.ti.com/; ComponentLink2Description: Datasheet; ComponentLink2URL: http://www.ti.com/lit/ds/symlink/sn74auc1g02.pdf
footprint DBV0005A_N (SOT23, 5-Leads, Body 3.05x1.75mm, Pitch 0.95mm, IPC Medium Density)
footprint DBV0005A_M (SOT23, 5-Leads, Body 3.05x1.75mm, Pitch 0.95mm, IPC Low Density)
footprint DBV0005A_L (SOT23, 5-Leads, Body 3.05x1.75mm, Pitch 0.95mm, IPC High Density)
part A pins: 1 A (in) "Input A", 2 B (in) "Input B", 4 Y (out) "Output Y"
part B pins: 3 GND (power) "Ground Pin", 5 VCC (power) "Power Pin"

## SN74AUC1G02DCKR
designator U?
Single 2-Input Positive-NOR Gate, DCK0005A, LARGE T&R; Generic Part Number: SN74AUC1G02; Manufacturer: Texas Instruments; PartNumber: SN74AUC1G02DCKR; VCC(Min)(V): 0.8; VCC(Max)(V): 2.7; Output Type: CMOS; ICC @ Nom Voltage(Max)(mA): 0.01; Bits(#): 1; F @ Nom Voltage(Max)(Mhz): 250; Rating: Catalog; Technology Family: AUC; Voltage(Nom)(V): 0.8,1.2,1.5,1.8,2.5; Schmitt Trigger: No; Output Drive (IOL/IOH)(Max)(mA): 9/-9; tpd @ Nom Voltage(Max)(ns): 4.6,3.2,2.2,1.9,1.7; Logic: True; Gate Type: NOR; DatasheetVersion: SCES369P; PackageReference: DCK0005A; Supplier 1: Mouser; Supplier Part Number 1: 595-SN74AUC1G02DCKR; Supplier 2: Digi-Key; Supplier Part Number 2: 296-13167-2-ND; Supplier 3: Digi-Key; Supplier Part Number 3: 296-13167-1-ND; Supplier 4: Digi-Key; Supplier Part Number 4: 296-13167-6-ND; Input Type: CMOS; Operating Temperature Range(C): -40 to 85; Sub-Family: NOR Gate; 3-State Output: No; ComponentLink1Description: Manufacturer URL; ComponentLink1URL: http://www.ti.com/; ComponentLink2Description: Datasheet; ComponentLink2URL: http://www.ti.com/lit/ds/symlink/sn74auc1g02.pdf
footprint DCK0005A_N (SOT23, 5-Leads, Body 2.15x1.4mm, Pitch 0.65mm, IPC Medium Density)
footprint DCK0005A_M (SOT23, 5-Leads, Body 2.15x1.4mm, Pitch 0.65mm, IPC Low Density)
footprint DCK0005A_L (SOT23, 5-Leads, Body 2.15x1.4mm, Pitch 0.65mm, IPC High Density)
part A pins: 1 A (in) "Input A", 2 B (in) "Input B", 4 Y (out) "Output Y"
part B pins: 3 GND (power) "Ground Pin", 5 VCC (power) "Power Pin"

## SN74AUC1G02DRLR
designator U?
Single 2-Input Positive-NOR Gate, DRL0005A, LARGE T&R; Generic Part Number: SN74AUC1G02; Manufacturer: Texas Instruments; PartNumber: SN74AUC1G02DRLR; VCC(Min)(V): 0.8; VCC(Max)(V): 2.7; Output Type: CMOS; ICC @ Nom Voltage(Max)(mA): 0.01; Bits(#): 1; F @ Nom Voltage(Max)(Mhz): 250; Rating: Catalog; Technology Family: AUC; Voltage(Nom)(V): 0.8,1.2,1.5,1.8,2.5; Schmitt Trigger: No; Output Drive (IOL/IOH)(Max)(mA): 9/-9; tpd @ Nom Voltage(Max)(ns): 4.6,3.2,2.2,1.9,1.7; Logic: True; Gate Type: NOR; DatasheetVersion: SCES369P; PackageReference: DRL0005A; Supplier 1: Mouser; Supplier Part Number 1: 595-SN74AUC1G02DRLR; Supplier 2: Digi-Key; Supplier Part Number 2: 296-18710-2-ND; Supplier 3: Digi-Key; Supplier Part Number 3: 296-18710-1-ND; Supplier 4: Digi-Key; Supplier Part Number 4: 296-18710-6-ND; Input Type: CMOS; Operating Temperature Range(C): -40 to 85; Sub-Family: NOR Gate; 3-State Output: No; ComponentLink1Description: Manufacturer URL; ComponentLink1URL: http://www.ti.com/; ComponentLink2Description: Datasheet; ComponentLink2URL: http://www.ti.com/lit/ds/symlink/sn74auc1g02.pdf
footprint DRL0005A_N (SOT23, 5-Leads, Body 1.7x1.3mm, Pitch 0.5mm, IPC Medium Density)
footprint DRL0005A_M (SOT23, 5-Leads, Body 1.7x1.3mm, Pitch 0.5mm, IPC Low Density)
footprint DRL0005A_L (SOT23, 5-Leads, Body 1.7x1.3mm, Pitch 0.5mm, IPC High Density)
part A pins: 1 A (in) "Input A", 2 B (in) "Input B", 4 Y (out) "Output Y"
part B pins: 3 GND (power) "Ground Pin", 5 VCC (power) "Power Pin"

## SN74AUC1G02YZPR
designator U?
Single 2-Input Positive-NOR Gate, YZP0005ADAD, LARGE T&R; Generic Part Number: SN74AUC1G02; Manufacturer: Texas Instruments; PartNumber: SN74AUC1G02YZPR; VCC(Min)(V): 0.8; VCC(Max)(V): 2.7; Output Type: CMOS; ICC @ Nom Voltage(Max)(mA): 0.01; Bits(#): 1; F @ Nom Voltage(Max)(Mhz): 250; Rating: Catalog; Technology Family: AUC; Voltage(Nom)(V): 0.8,1.2,1.5,1.8,2.5; Schmitt Trigger: No; Output Drive (IOL/IOH)(Max)(mA): 9/-9; tpd @ Nom Voltage(Max)(ns): 4.6,3.2,2.2,1.9,1.7; Logic: True; Gate Type: NOR; DatasheetVersion: SCES369P; PackageReference: YZP0005ADAD; Supplier 1: Mouser; Supplier Part Number 1: 595-SN74AUC1G02YZPR; Supplier 2: Digi-Key; Supplier Part Number 2: SN74AUC1G02YZPR-ND; Input Type: CMOS; Operating Temperature Range(C): -40 to 85; Sub-Family: NOR Gate; 3-State Output: No; ComponentLink1Description: Manufacturer URL; ComponentLink1URL: http://www.ti.com/; ComponentLink2Description: Datasheet; ComponentLink2URL: http://www.ti.com/lit/ds/symlink/sn74auc1g02.pdf
footprint YZP0005ADAD (BGA, 5-Balls, Body 1.39x0.89mm, Pitch 0.5mm)
part A pins: A1 A (in), B1 B (in), C2 Y (out)
part B pins: A2 VCC (power), C1 GND (power)

## SN74AUC1G04DBVR
designator U?
Single Inverter Gate, DBV0005A, LARGE T&R; Generic Part Number: SN74AUC1G04; Manufacturer: Texas Instruments; PartNumber: SN74AUC1G04DBVR; VCC(Min)(V): 0.8; VCC(Max)(V): 2.7; Output Type: CMOS; ICC @ Nom Voltage(Max)(mA): 0.01; Bits(#): 1; F @ Nom Voltage(Max)(Mhz): 250; Rating: Catalog; Technology Family: AUC; Voltage(Nom)(V): 0.8,1.2,1.5,1.8,2.5; Schmitt Trigger: No; Output Drive (IOL/IOH)(Max)(mA): 9/-9; tpd @ Nom Voltage(Max)(ns): 4.4,3,2,2.1,1.6; Logic: Inverting; Sub-Family: Inverting Buffer/Driver; DatasheetVersion: SCES370Q; PackageReference: DBV0005A; Supplier 1: Mouser; Supplier Part Number 1: 595-SN74AUC1G04DBVR; Supplier 2: Digi-Key; Supplier Part Number 2: 296-13168-2-ND; Supplier 3: Digi-Key; Supplier Part Number 3: 296-13168-1-ND; Supplier 4: Digi-Key; Supplier Part Number 4: 296-13168-6-ND; Input Type: CMOS; Operating Temperature Range(C): -40 to 85; 3-State Output: No; ComponentLink1Description: Manufacturer URL; ComponentLink1URL: http://www.ti.com/; ComponentLink2Description: Datasheet; ComponentLink2URL: http://www.ti.com/lit/ds/symlink/sn74auc1g04.pdf
footprint DBV0005A_N (SOT23, 5-Leads, Body 3.05x1.75mm, Pitch 0.95mm, IPC Medium Density)
footprint DBV0005A_M (SOT23, 5-Leads, Body 3.05x1.75mm, Pitch 0.95mm, IPC Low Density)
footprint DBV0005A_L (SOT23, 5-Leads, Body 3.05x1.75mm, Pitch 0.95mm, IPC High Density)
part A pins: 2 A (in), 4 Y (out)
part B pins: 1 NC, 3 GND (power), 5 VCC (power)

## SN74AUC1G04DCKR
designator U?
Single Inverter Gate, DCK0005A, LARGE T&R; Generic Part Number: SN74AUC1G04; Manufacturer: Texas Instruments; PartNumber: SN74AUC1G04DCKR; VCC(Min)(V): 0.8; VCC(Max)(V): 2.7; Output Type: CMOS; ICC @ Nom Voltage(Max)(mA): 0.01; Bits(#): 1; F @ Nom Voltage(Max)(Mhz): 250; Rating: Catalog; Technology Family: AUC; Voltage(Nom)(V): 0.8,1.2,1.5,1.8,2.5; Schmitt Trigger: No; Output Drive (IOL/IOH)(Max)(mA): 9/-9; tpd @ Nom Voltage(Max)(ns): 4.4,3,2,2.1,1.6; Logic: Inverting; Sub-Family: Inverting Buffer/Driver; DatasheetVersion: SCES370Q; PackageReference: DCK0005A; Supplier 1: Mouser; Supplier Part Number 1: 595-SN74AUC1G04DCKR; Supplier 2: Digi-Key; Supplier Part Number 2: 296-13169-2-ND; Supplier 3: Digi-Key; Supplier Part Number 3: 296-13169-1-ND; Supplier 4: Digi-Key; Supplier Part Number 4: 296-13169-6-ND; Input Type: CMOS; Operating Temperature Range(C): -40 to 85; 3-State Output: No; ComponentLink1Description: Manufacturer URL; ComponentLink1URL: http://www.ti.com/; ComponentLink2Description: Datasheet; ComponentLink2URL: http://www.ti.com/lit/ds/symlink/sn74auc1g04.pdf
footprint DCK0005A_N (SOT23, 5-Leads, Body 2.15x1.4mm, Pitch 0.65mm, IPC Medium Density)
footprint DCK0005A_M (SOT23, 5-Leads, Body 2.15x1.4mm, Pitch 0.65mm, IPC Low Density)
footprint DCK0005A_L (SOT23, 5-Leads, Body 2.15x1.4mm, Pitch 0.65mm, IPC High Density)
part A pins: 2 A (in) "Input A", 4 Y (out) "Output Y"
part B pins: 1 NC "Ground", 3 GND (power) "Ground Pin", 5 VCC (power) "Power Pin"

## SN74AUC1G04DRLR
designator U?
Single Inverter Gate, DRL0005A, LARGE T&R; Generic Part Number: SN74AUC1G04; Manufacturer: Texas Instruments; PartNumber: SN74AUC1G04DRLR; VCC(Min)(V): 0.8; VCC(Max)(V): 2.7; Output Type: CMOS; ICC @ Nom Voltage(Max)(mA): 0.01; Bits(#): 1; F @ Nom Voltage(Max)(Mhz): 250; Rating: Catalog; Technology Family: AUC; Voltage(Nom)(V): 0.8,1.2,1.5,1.8,2.5; Schmitt Trigger: No; Output Drive (IOL/IOH)(Max)(mA): 9/-9; tpd @ Nom Voltage(Max)(ns): 4.4,3,2,2.1,1.6; Logic: Inverting; Sub-Family: Inverting Buffer/Driver; DatasheetVersion: SCES370Q; PackageReference: DRL0005A; Supplier 1: Mouser; Supplier Part Number 1: 595-SN74AUC1G04DRLR; Supplier 2: Digi-Key; Supplier Part Number 2: 296-18313-2-ND; Supplier 3: Digi-Key; Supplier Part Number 3: 296-18313-1-ND; Supplier 4: Digi-Key; Supplier Part Number 4: 296-18313-6-ND; Input Type: CMOS; Operating Temperature Range(C): -40 to 85; 3-State Output: No; ComponentLink1Description: Manufacturer URL; ComponentLink1URL: http://www.ti.com/; ComponentLink2Description: Datasheet; ComponentLink2URL: http://www.ti.com/lit/ds/symlink/sn74auc1g04.pdf
footprint DRL0005A_N (SOT23, 5-Leads, Body 1.7x1.3mm, Pitch 0.5mm, IPC Medium Density)
footprint DRL0005A_M (SOT23, 5-Leads, Body 1.7x1.3mm, Pitch 0.5mm, IPC Low Density)
footprint DRL0005A_L (SOT23, 5-Leads, Body 1.7x1.3mm, Pitch 0.5mm, IPC High Density)
part A pins: 2 A (in) "Input A", 4 Y (out) "Output Y"
part B pins: 1 NC "Ground", 3 GND (power) "Ground Pin", 5 VCC (power) "Power Pin"

## SN74AUC1G04DRYR
designator U?
Single Inverter Gate, DRY0006A, LARGE T&R; Generic Part Number: SN74AUC1G04; Manufacturer: Texas Instruments; PartNumber: SN74AUC1G04DRYR; VCC(Min)(V): 0.8; VCC(Max)(V): 2.7; Output Type: CMOS; ICC @ Nom Voltage(Max)(mA): 0.01; Bits(#): 1; F @ Nom Voltage(Max)(Mhz): 250; Rating: Catalog; Technology Family: AUC; Voltage(Nom)(V): 0.8,1.2,1.5,1.8,2.5; Schmitt Trigger: No; Output Drive (IOL/IOH)(Max)(mA): 9/-9; tpd @ Nom Voltage(Max)(ns): 4.4,3,2,2.1,1.6; Logic: Inverting; Sub-Family: Inverting Buffer/Driver; DatasheetVersion: SCES370Q; PackageReference: DRY0006A; Supplier 1: Mouser; Supplier Part Number 1: 595-SN74AUC1G04DRYR; Supplier 2: Digi-Key; Supplier Part Number 2: 296-36717-2-ND; Supplier 3: Digi-Key; Supplier Part Number 3: 296-36717-1-ND; Supplier 4: Digi-Key; Supplier Part Number 4: 296-36717-6-ND; Input Type: CMOS; Operating Temperature Range(C): -40 to 85; 3-State Output: No; ComponentLink1Description: Manufacturer URL; ComponentLink1URL: http://www.ti.com/; ComponentLink2Description: Datasheet; ComponentLink2URL: http://www.ti.com/lit/ds/symlink/sn74auc1g04.pdf
footprint DRY0006A_V (SON, 6-Leads, Body 1.45x1mm, Pitch 0.5mm)
part A pins: 2 A (in), 4 Y (out)
part B pins: 1 NC, 3 GND (power), 5 NC, 6 VCC (power)

## SN74AUC1G04YZPR
designator U?
Single Inverter Gate, YZP0005ADAD, LARGE T&R; Generic Part Number: SN74AUC1G04; Manufacturer: Texas Instruments; PartNumber: SN74AUC1G04YZPR; VCC(Min)(V): 0.8; VCC(Max)(V): 2.7; Output Type: CMOS; ICC @ Nom Voltage(Max)(mA): 0.01; Bits(#): 1; F @ Nom Voltage(Max)(Mhz): 250; Rating: Catalog; Technology Family: AUC; Voltage(Nom)(V): 0.8,1.2,1.5,1.8,2.5; Schmitt Trigger: No; Output Drive (IOL/IOH)(Max)(mA): 9/-9; tpd @ Nom Voltage(Max)(ns): 4.4,3,2,2.1,1.6; Logic: Inverting; Sub-Family: Inverting Buffer/Driver; DatasheetVersion: SCES370Q; PackageReference: YZP0005ADAD; Supplier 1: Mouser; Supplier Part Number 1: 595-SN74AUC1G04YZPR; Supplier 2: Digi-Key; Supplier Part Number 2: 296-15261-2-ND; Supplier 3: Digi-Key; Supplier Part Number 3: 296-15261-1-ND; Input Type: CMOS; Operating Temperature Range(C): -40 to 85; 3-State Output: No; ComponentLink1Description: Manufacturer URL; ComponentLink1URL: http://www.ti.com/; ComponentLink2Description: Datasheet; ComponentLink2URL: http://www.ti.com/lit/ds/symlink/sn74auc1g04.pdf
footprint YZP0005ADAD (BGA, 5-Balls, Body 1.39x0.89mm, Pitch 0.5mm)
part A pins: B1 A (in) "Input", C2 Y (out) "Output"
part B pins: A1 DNU "Do not use", A2 VCC (power) "Power terminal", C1 GND (power) "Ground"

## SN74AUC1G06DBVR
designator U?
Single Inverter Buffer/Driver with Open-Drain Output, DBV0005A, LARGE T&R; Generic Part Number: SN74AUC1G06; Manufacturer: Texas Instruments; PartNumber: SN74AUC1G06DBVR; VCC(Min)(V): 0.8; VCC(Max)(V): 2.7; Output Type: CMOS; ICC @ Nom Voltage(Max)(mA): 0.01; Bits(#): 1; F @ Nom Voltage(Max)(Mhz): 250; Rating: Catalog; Technology Family: AUC; Voltage(Nom)(V): 0.8,1.2,1.5,1.8,2.5; Schmitt Trigger: No; Output Drive (IOL/IOH)(Max)(mA): 9/-9; tpd @ Nom Voltage(Max)(ns): 5,3.1,2.4,2.5,1.7; Logic: Inverting; Sub-Family: Inverting Buffer/Driver; DatasheetVersion: SCES372M; PackageReference: DBV0005A; Supplier 1: Mouser; Supplier Part Number 1: 595-SN74AUC1G06DBVR; Supplier 2: Digi-Key; Supplier Part Number 2: 296-12652-2-ND; Supplier 3: Digi-Key; Supplier Part Number 3: 296-12652-1-ND; Supplier 4: Digi-Key; Supplier Part Number 4: 296-12652-6-ND; Input Type: CMOS; Operating Temperature Range(C): -40 to 85; 3-State Output: No; ComponentLink1Description: Manufacturer URL; ComponentLink1URL: http://www.ti.com/; ComponentLink2Description: Datasheet; ComponentLink2URL: http://www.ti.com/lit/ds/symlink/sn74auc1g06.pdf
footprint DBV0005A_N (SOT23, 5-Leads, Body 3.05x1.75mm, Pitch 0.95mm, IPC Medium Density)
footprint DBV0005A_M (SOT23, 5-Leads, Body 3.05x1.75mm, Pitch 0.95mm, IPC Low Density)
footprint DBV0005A_L (SOT23, 5-Leads, Body 3.05x1.75mm, Pitch 0.95mm, IPC High Density)
part A pins: 2 A (in), 4 Y (oc)
part B pins: 1 NC, 3 GND (power), 5 VCC (power)

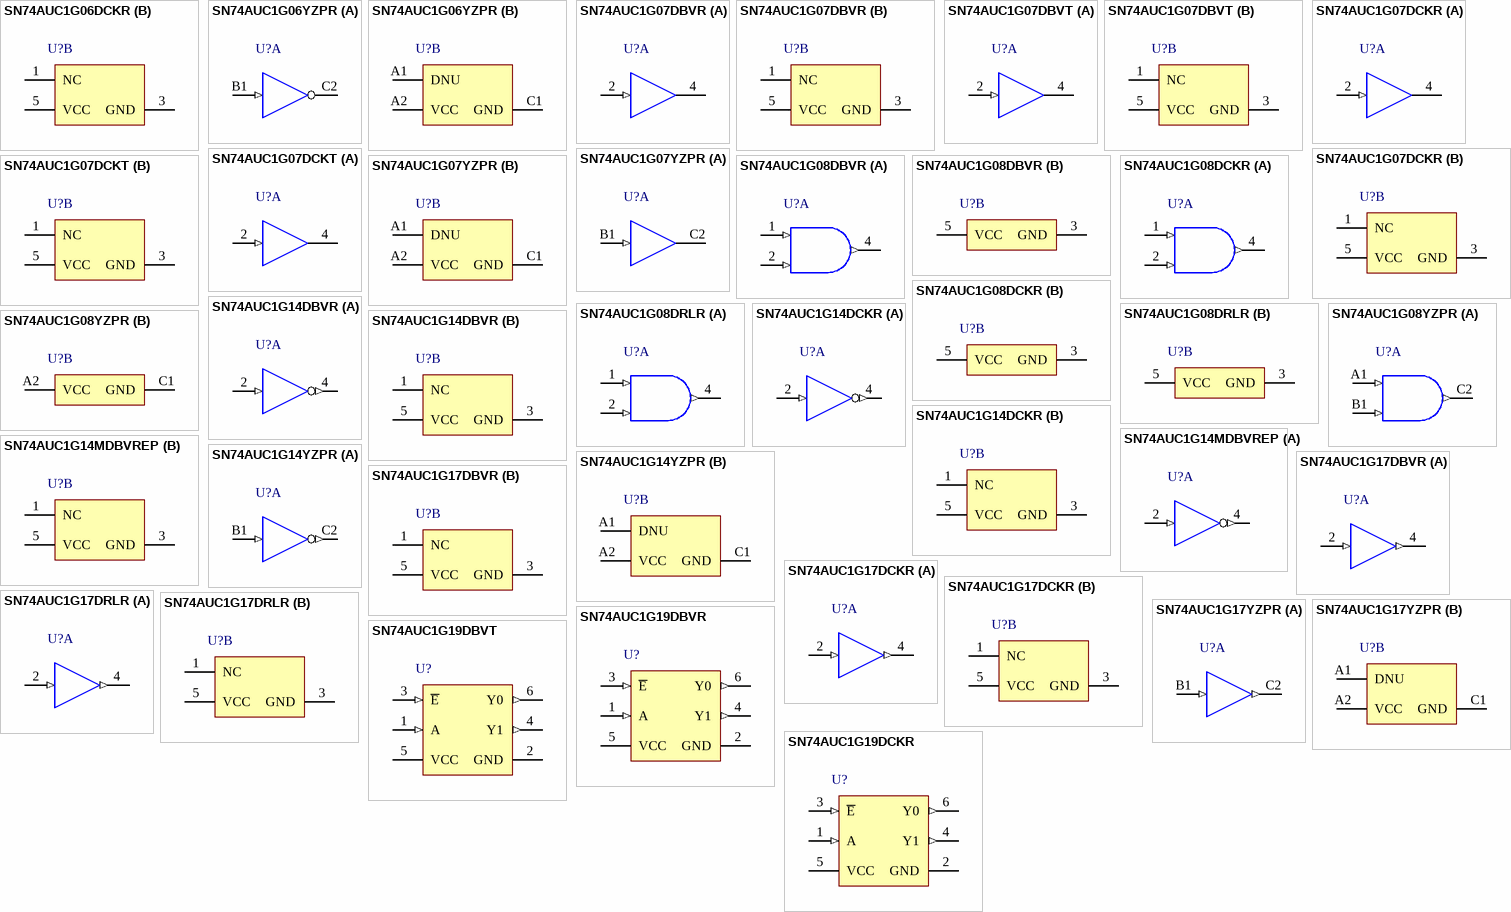
[diagram p8: symbols SN74AUC1G06DCKR to SN74AUC1G19DCKR]

## SN74AUC1G06DCKR
designator U?
Single Inverter Buffer/Driver with Open-Drain Output, DCK0005A, LARGE T&R; Generic Part Number: SN74AUC1G06; Manufacturer: Texas Instruments; PartNumber: SN74AUC1G06DCKR; VCC(Min)(V): 0.8; VCC(Max)(V): 2.7; Output Type: CMOS; ICC @ Nom Voltage(Max)(mA): 0.01; Bits(#): 1; F @ Nom Voltage(Max)(Mhz): 250; Rating: Catalog; Technology Family: AUC; Voltage(Nom)(V): 0.8,1.2,1.5,1.8,2.5; Schmitt Trigger: No; Output Drive (IOL/IOH)(Max)(mA): 9/-9; tpd @ Nom Voltage(Max)(ns): 5,3.1,2.4,2.5,1.7; Logic: Inverting; Sub-Family: Inverting Buffer/Driver; DatasheetVersion: SCES372M; PackageReference: DCK0005A; Supplier 1: Mouser; Supplier Part Number 1: 595-SN74AUC1G06DCKR; Supplier 2: Digi-Key; Supplier Part Number 2: 296-12653-2-ND; Supplier 3: Digi-Key; Supplier Part Number 3: 296-12653-1-ND; Supplier 4: Digi-Key; Supplier Part Number 4: 296-12653-6-ND; Input Type: CMOS; Operating Temperature Range(C): -40 to 85; 3-State Output: No; ComponentLink1Description: Manufacturer URL; ComponentLink1URL: http://www.ti.com/; ComponentLink2Description: Datasheet; ComponentLink2URL: http://www.ti.com/lit/ds/symlink/sn74auc1g06.pdf
footprint DCK0005A_N (SOT23, 5-Leads, Body 2.15x1.4mm, Pitch 0.65mm, IPC Medium Density)
footprint DCK0005A_M (SOT23, 5-Leads, Body 2.15x1.4mm, Pitch 0.65mm, IPC Low Density)
footprint DCK0005A_L (SOT23, 5-Leads, Body 2.15x1.4mm, Pitch 0.65mm, IPC High Density)
part A pins: 2 A (in), 4 Y (oc)
part B pins: 1 NC, 3 GND (power), 5 VCC (power)

## SN74AUC1G06YZPR
designator U?
Single Inverter Buffer/Driver with Open-Drain Output, YZP0005ADAD, LARGE T&R; Generic Part Number: SN74AUC1G06; Manufacturer: Texas Instruments; PartNumber: SN74AUC1G06YZPR; VCC(Min)(V): 0.8; VCC(Max)(V): 2.7; Output Type: CMOS; ICC @ Nom Voltage(Max)(mA): 0.01; Bits(#): 1; F @ Nom Voltage(Max)(Mhz): 250; Rating: Catalog; Technology Family: AUC; Voltage(Nom)(V): 0.8,1.2,1.5,1.8,2.5; Schmitt Trigger: No; Output Drive (IOL/IOH)(Max)(mA): 9/-9; tpd @ Nom Voltage(Max)(ns): 5,3.1,2.4,2.5,1.7; Logic: Inverting; Sub-Family: Inverting Buffer/Driver; DatasheetVersion: SCES372M; PackageReference: YZP0005ADAD; Supplier 1: Mouser; Supplier Part Number 1: 595-SN74AUC1G06YZPR; Supplier 2: Digi-Key; Supplier Part Number 2: 296-18548-2-ND; Supplier 3: Digi-Key; Supplier Part Number 3: 296-18548-1-ND; Input Type: CMOS; Operating Temperature Range(C): -40 to 85; 3-State Output: No; ComponentLink1Description: Manufacturer URL; ComponentLink1URL: http://www.ti.com/; ComponentLink2Description: Datasheet; ComponentLink2URL: http://www.ti.com/lit/ds/symlink/sn74auc1g06.pdf
footprint YZP0005ADAD (BGA, 5-Balls, Body 1.39x0.89mm, Pitch 0.5mm)
part A pins: B1 A (in), C2 Y (oc)
part B pins: A1 DNU, A2 VCC (power), C1 GND (power)

## SN74AUC1G07DBVR
designator U?
Single Buffer/Driver With Open-Drain Output, DBV0005A, LARGE T&R; Generic Part Number: SN74AUC1G07; Manufacturer: Texas Instruments; PartNumber: SN74AUC1G07DBVR; VCC(Min)(V): 0.8; VCC(Max)(V): 2.7; Output Type: CMOS; ICC @ Nom Voltage(Max)(mA): 0.01; Bits(#): 1; F @ Nom Voltage(Max)(Mhz): 250; Rating: Catalog; Technology Family: AUC; Voltage(Nom)(V): 0.8,1.2,1.5,1.8,2.5; Schmitt Trigger: No; Output Drive (IOL/IOH)(Max)(mA): 9/-9; tpd @ Nom Voltage(Max)(ns): 4.7,3.3,2.4,2.3,1.8; Logic: True; Sub-Family: Non-Inverting Buffer/Driver; DatasheetVersion: SCES373Q; PackageReference: DBV0005A; Supplier 1: Mouser; Supplier Part Number 1: 595-SN74AUC1G07DBVR; Supplier 2: Digi-Key; Supplier Part Number 2: 296-12463-2-ND; Supplier 3: Digi-Key; Supplier Part Number 3: 296-12463-1-ND; Supplier 4: Digi-Key; Supplier Part Number 4: 296-12463-6-ND; Input Type: CMOS; Operating Temperature Range(C): -40 to 85; 3-State Output: No; ComponentLink1Description: Manufacturer URL; ComponentLink1URL: http://www.ti.com/; ComponentLink2Description: Datasheet; ComponentLink2URL: http://www.ti.com/lit/ds/symlink/sn74auc1g07.pdf
footprint DBV0005A_N (SOT23, 5-Leads, Body 3.05x1.75mm, Pitch 0.95mm, IPC Medium Density)
footprint DBV0005A_M (SOT23, 5-Leads, Body 3.05x1.75mm, Pitch 0.95mm, IPC Low Density)
footprint DBV0005A_L (SOT23, 5-Leads, Body 3.05x1.75mm, Pitch 0.95mm, IPC High Density)
part A pins: 2 A (in) "Input A", 4 Y (oc) "Output Y"
part B pins: 1 NC "No Connection", 3 GND (power) "Ground Pin", 5 VCC (power) "Power Pin"

## SN74AUC1G07DBVT
designator U?
Single Buffer/Driver With Open-Drain Output, DBV0005A, SMALL T&R; Generic Part Number: SN74AUC1G07; Manufacturer: Texas Instruments; PartNumber: SN74AUC1G07DBVT; VCC(Min)(V): 0.8; VCC(Max)(V): 2.7; Output Type: CMOS; ICC @ Nom Voltage(Max)(mA): 0.01; Bits(#): 1; F @ Nom Voltage(Max)(Mhz): 250; Rating: Catalog; Technology Family: AUC; Voltage(Nom)(V): 0.8,1.2,1.5,1.8,2.5; Schmitt Trigger: No; Output Drive (IOL/IOH)(Max)(mA): 9/-9; tpd @ Nom Voltage(Max)(ns): 4.7,3.3,2.4,2.3,1.8; Logic: True; Sub-Family: Non-Inverting Buffer/Driver; DatasheetVersion: SCES373Q; PackageReference: DBV0005A; Supplier 1: Mouser; Supplier Part Number 1: 595-SN74AUC1G07DBVT; Supplier 2: Digi-Key; Supplier Part Number 2: 296-32253-2-ND; Supplier 3: Digi-Key; Supplier Part Number 3: 296-32253-1-ND; Supplier 4: Digi-Key; Supplier Part Number 4: 296-32253-6-ND; Input Type: CMOS; Operating Temperature Range(C): -40 to 85; 3-State Output: No; ComponentLink1Description: Manufacturer URL; ComponentLink1URL: http://www.ti.com/; ComponentLink2Description: Datasheet; ComponentLink2URL: http://www.ti.com/lit/ds/symlink/sn74auc1g07.pdf
footprint DBV0005A_N (SOT23, 5-Leads, Body 3.05x1.75mm, Pitch 0.95mm, IPC Medium Density)
footprint DBV0005A_M (SOT23, 5-Leads, Body 3.05x1.75mm, Pitch 0.95mm, IPC Low Density)
footprint DBV0005A_L (SOT23, 5-Leads, Body 3.05x1.75mm, Pitch 0.95mm, IPC High Density)
part A pins: 2 A (in) "Input A", 4 Y (oc) "Output Y"
part B pins: 1 NC "No Connection", 3 GND (power) "Ground Pin", 5 VCC (power) "Power Pin"